# Altium footprint library 156120VS75300.PcbLib: 3 footprints
Each footprint in its own frame and in the unit in brackets; x right, y up, seen from the top. Pads: shape width x height; smd on the part's side, far side on the other; paste and mask are expansions set on the pad; w line width, h text height; cw(c..) or ccw(c..) is an arc to the next point about the centre after c.
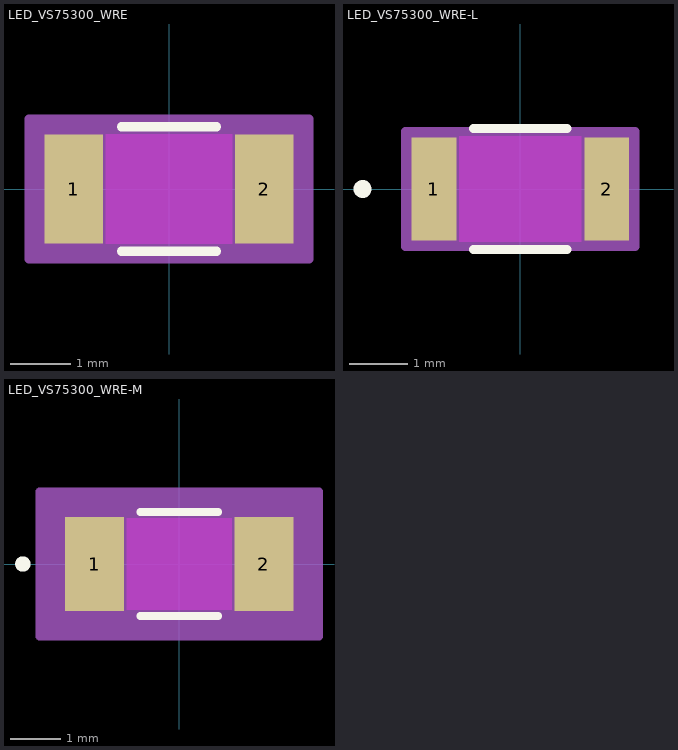
[diagram p0: the footprints below, top view; thin cyan lines are the x and y axes]

## LED_VS75300_WRE [mil]
pads (2):
  rect 38x71 smd paste+0 mask+0: 1(-62,0) 2(62,0)
Top Layer keep-out:
  region: -41,-33.5 -41,33.5 41,33.5 41,-33.5
Top Overlay:
  lines w6: -30.89,-40.5 30.89,-40.5 ; -30.89,40.5 30.89,40.5
Keep-Out Layer:
  region: -41,-35.5 -41,35.5 41,35.5 41,-35.5
Mechanical 13:
  circle w0: c-57,0 r0
  lines w1: -67,-35.5 -67,35.5 ; -67,-35.5 -43,-35.5 -43,35.5 -67,35.5 ; -67,-35.5 67,-35.5 ; -67,-35.5 -67,35.5 ; -67,35.5 67,35.5 ; 67,-35.5 43,-35.5 43,35.5 67,35.5 ; 67,-35.5 67,35.5 ; 67,-35.5 67,35.5
Mechanical 15:
  region: 91,-45.5 -91,-45.5 -91,45.5 91,45.5
  lines w6: -91,-45.5 -91,45.5 91,45.5 91,-45.5 -91,-45.5
3D body "LED_VS75300_WRE.step": height 55, standoff 0, extent -67.01,-35.51 67.01,35.51

## LED_VS75300_WRE-L [mil]
pads (2):
  rect 30x69 smd paste+0 mask+0: 1(-58,0) 2(58,0)
Top Layer keep-out:
  region: -41,-33.5 -41,33.5 41,33.5 41,-33.5
Top Overlay:
  circle w6: c-106,0 r3
  lines w6: -31.35,-40.5 31.35,-40.5 ; -31.35,40.5 31.35,40.5
Keep-Out Layer:
  region: -41,-35.5 -41,35.5 41,35.5 41,-35.5
Mechanical 13:
  circle w0: c-53,0 r3
  lines w1: -67,-35.5 -67,35.5 ; -67,-35.5 -43,-35.5 -43,35.5 -67,35.5 ; -67,-35.5 67,-35.5 ; -67,-35.5 -67,35.5 ; -67,35.5 67,35.5 ; 67,-35.5 43,-35.5 43,35.5 67,35.5 ; 67,-35.5 67,35.5 ; 67,-35.5 67,35.5
Mechanical 15:
  region: 77,-38.5 -77,-38.5 -77,38.5 77,38.5
  lines w6: -77,-38.5 -77,38.5 77,38.5 77,-38.5 -77,-38.5
3D body "LED_VS75300_WRE.step": height 55, standoff 0, extent -67.01,-35.51 67.01,35.51

## LED_VS75300_WRE-M [mil]
pads (2):
  rect 46x73 smd paste+0 mask+0: 1(-66,0) 2(66,0)
Top Layer keep-out:
  region: -41,-33.5 -41,33.5 41,33.5 41,-33.5
Top Overlay:
  circle w6: c-122,0 r3
  lines w6: -30.53,-40.5 30.53,-40.5 ; -30.53,40.5 30.53,40.5
Keep-Out Layer:
  region: -41,-35.5 -41,35.5 41,35.5 41,-35.5
Mechanical 13:
  circle w0: c-61,0 r3
  lines w1: -67,-35.5 -67,35.5 ; -67,-35.5 -43,-35.5 -43,35.5 -67,35.5 ; -67,-35.5 67,-35.5 ; -67,-35.5 -67,35.5 ; -67,35.5 67,35.5 ; 67,-35.5 43,-35.5 43,35.5 67,35.5 ; 67,-35.5 67,35.5 ; 67,-35.5 67,35.5
Mechanical 15:
  region: 109,-56.5 -109,-56.5 -109,56.5 109,56.5
  lines w6: -109,-56.5 -109,56.5 109,56.5 109,-56.5 -109,-56.5
3D body "LED_VS75300_WRE.step": height 55, standoff 0, extent -67.01,-35.51 67.01,35.51